# EAGLE library part CON_ISP (library isysbus_mechanical)
Connector: ISP Order numbers: - Reichelt: N/A - CSD-Electronics: N/A
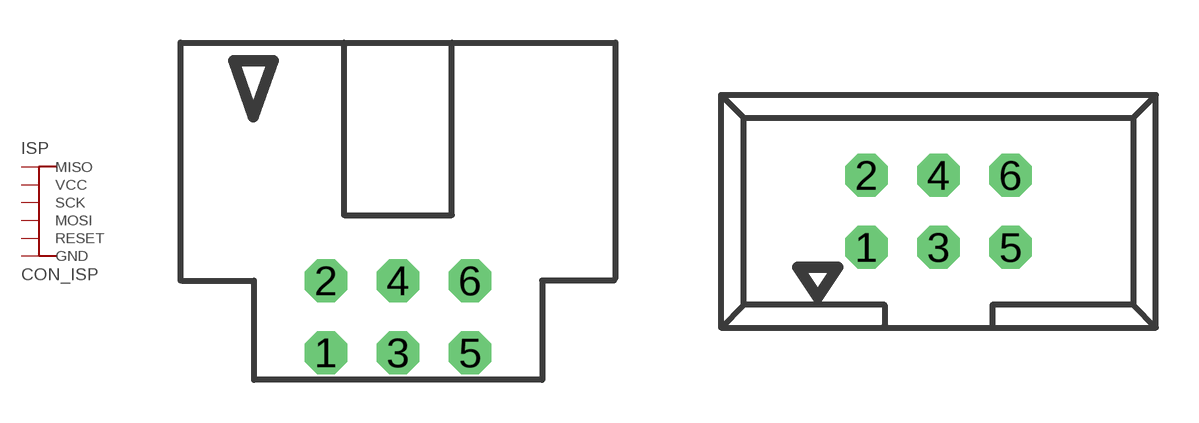
[diagram p1: symbol with the pads of 057-006-0; footprints 057-006-0, 057-006-1]

Designator prefix ISP

## CON_ISP0  [057-006-0]
1  MISO
2  VCC
3  SCK
4  MOSI
5  RESET
6  GND

## CON_ISP1  [057-006-1]
Pads as for 057-006-0

## CON_ISPSMALL  [PINHEAD_ISP]
Pads as for 057-006-0

## Footprint 057-006-0 (pad centres in mm)
CONNECTOR series 057 contact pc board low profile headers angled
drill 1 octagon: 1 -2.54,-5.08; 2 -2.54,-2.54; 3 0,-5.08; 4 0,-2.54; 5 2.54,-5.08; 6 2.54,-2.54

## Footprint 057-006-1 (pad centres in mm)
CONNECTOR series 057 contact pc board low profile headers straight
drill 1 octagon: 1 -2.54,-1.27; 2 -2.54,1.27; 3 0,-1.27; 4 0,1.27; 5 2.54,-1.27; 6 2.54,1.27

## Footprint PINHEAD_ISP (pad centres in mm)
drill 1 octagon: 1 -2.54,-1.27; 2 -2.54,1.27; 3 0,-1.27; 4 0,1.27; 5 2.54,-1.27; 6 2.54,1.27